# Altium schematic symbol library before-editor-checkpoint.SchLib: 1 symbol
Pins are listed as number, name and electrical type; pins without a type are passive.

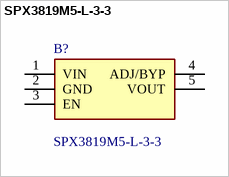
[diagram p0: symbol SPX3819M5-L-3-3]

## SPX3819M5-L-3-3
designator B?
IC REG LINEAR 3.3V 500MA SOT23-5; Manufacturer_Name: MaxLinear, Inc.; Geometry.Height: 1.45mm; Manufacturer_Part_Number: SPX3819M5-L-3-3; Mouser Part Number: 701-SPX3819M5-L-3-3; Mouser Price/Stock: https://www.mouser.co.uk/ProductDetail/MaxLinear/SPX3819M5-L-3-3?qs=2Z08r0Wtf%2Fyl32mFDRYBCg%3D%3D; Arrow Part Number: *; Arrow Price/Stock: *; Datasheet Link: https://componentsearchengine.com/Datasheets/2/SPX3819M5-L-3-3.pdf
footprint SOT95P280X145-5N
pins: 1 VIN, 2 GND, 3 EN, 4 ADJ/BYP, 5 VOUT